# EAGLE library part M55-6022042R (library CONNECTORs)
20 Position Receptacle Connector Surface Mount
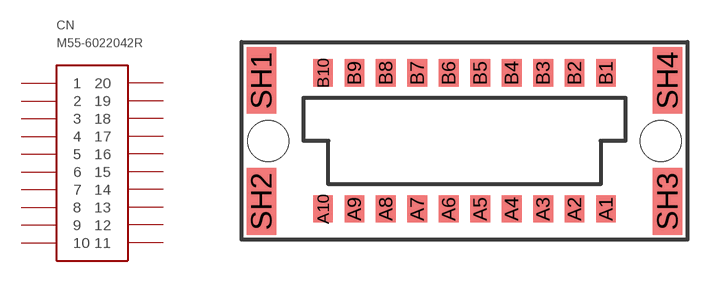
[diagram p54: symbol with the pads of M55-7012042R; footprint M55-7012042R]

Designator prefix CN

## M55-6022042R (DIGIKEY: 952-3853-1-ND; HEIGHT: 13.65; PRICE_PER: 1.59; VALUE: M55 20 PIN FEMALE)  [M55-7012042R]
A1  10
A2  9
A3  8
A4  7
A5  6
A6  5
A7  4
A8  3
A9  2
A10  1
B1  11
B2  12
B3  13
B4  14
B5  15
B6  16
B7  17
B8  18
B9  19
B10  20

## Footprint M55-7012042R (pad centres in mm)
smd 0.8 x 1.1: A1 5.715,-2.75; A2 4.445,-2.75; A3 3.175,-2.75; A4 1.905,-2.75; A5 0.635,-2.75; A6 -0.635,-2.75; A7 -1.905,-2.75; A8 -3.175,-2.75; A9 -4.445,-2.75; A10 -5.715,-2.75; B1 5.715,2.75; B2 4.445,2.75; B3 3.175,2.75; B4 1.905,2.75; B5 0.635,2.75; B6 -0.635,2.75; B7 -1.905,2.75; B8 -3.175,2.75; B9 -4.445,2.75; B10 -5.715,2.75
smd 1.2 x 2.7: SH1 -8.2,2.45; SH2 -8.2,-2.45; SH3 8.2,-2.45; SH4 8.2,2.45
hole 1.65 at -7.925,0
hole 1.65 at 7.925,0